# Altium footprint library SOP65P780X200-28N.PcbLib: 1 footprints
Each footprint in its own frame and in the unit in brackets; x right, y up, seen from the top. Pads: shape width x height; smd on the part's side, far side on the other; paste and mask are expansions set on the pad; w line width, h text height; cw(c..) or ccw(c..) is an arc to the next point about the centre after c.
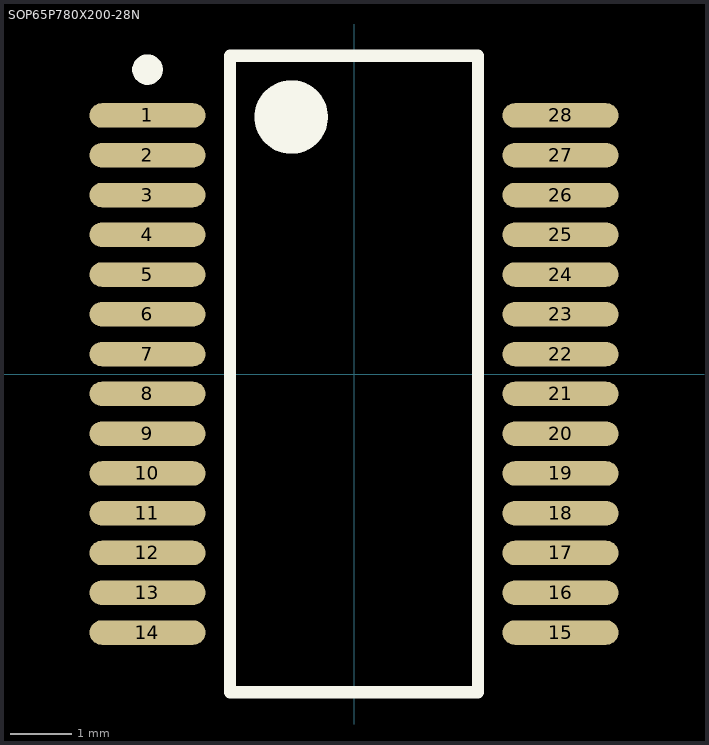
[diagram p0: the footprint, top view; thin cyan lines are the x and y axes]

## SOP65P780X200-28N [mm] "SOP, 28-Leads, Body 10.4x5.4mm (max), Pitch 0.65mm, IPC Medium Density"
height 2
pads (28):
  oval 1.9x0.4 smd: 1(-3.375,4.225) 2(-3.375,3.575) 3(-3.375,2.925) 4(-3.375,2.275) 5(-3.375,1.625) 6(-3.375,0.975) 7(-3.375,0.325) 8(-3.375,-0.325) 9(-3.375,-0.975) 10(-3.375,-1.625) 11(-3.375,-2.275) 12(-3.375,-2.925) 13(-3.375,-3.575) 14(-3.375,-4.225) 15(3.375,-4.225) 16(3.375,-3.575) 17(3.375,-2.925) 18(3.375,-2.275) 19(3.375,-1.625) 20(3.375,-0.975) 21(3.375,-0.325) 22(3.375,0.325) 23(3.375,0.975) 24(3.375,1.625) 25(3.375,2.275) 26(3.375,2.925) 27(3.375,3.575) 28(3.375,4.225)
Top Overlay:
  circle w0.25: c-3.375,4.975 r0.125
  circle w0.6: c-1.025,4.2 r0.3
  lines w0.2: -2.025,-5.2 -2.025,5.2 2.025,5.2 2.025,-5.2 -2.025,-5.2
3D body: height 2, standoff 0, extent -2.024,-5.199 2.024,5.199